# Altium schematic symbol library vishay-opto.SchLib: 1 symbol
Pins are listed as number, name and electrical type; pins without a type are passive.

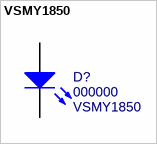
[diagram p0: symbol VSMY1850]

## VSMY1850
designator D?, comment 000000  value VSMY1850
Infrared LED 850nm, SMD 0805; Package: 0805; PN: 000000
footprint VSMY1850 (Chip LED 0805 - Low Density)
simulation model VSMY1850 (Model Description)
pins: 1 A, 2 K